# Altium footprint library ERN.PcbLib: 34 footprints (part 3 of 3)
Each footprint in its own frame and in the unit in brackets; x right, y up, seen from the top. Pads: shape width x height; smd on the part's side, far side on the other; paste and mask are expansions set on the pad; w line width, h text height; cw(c..) or ccw(c..) is an arc to the next point about the centre after c.
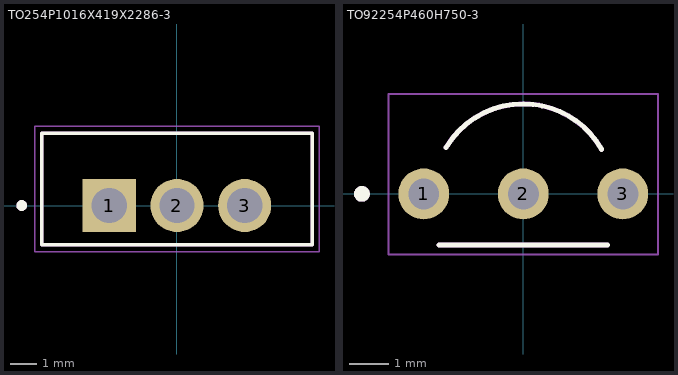
[diagram p2: the footprints below, top view; thin cyan lines are the x and y axes]

## TO254P1016X419X2286-3 [mm]
height 22.86
pads (3):
  rect 1.995x1.995 / inner round 1.995 / far side rect 1.995x1.995 hole 1.33: 1(-2.54,0)
  round 1.995 hole 1.33: 2(0,0) 3(2.54,0)
Top Overlay:
  circle w0.2: c-5.83,0 r0.1
  lines w0.127: -5.08,-1.478 5.08,-1.478 5.08,2.718 -5.08,2.718 -5.08,-1.478
Mechanical 13:
  circle w0.2: c-5.83,0 r0.1
  lines w0.127: -5.08,-1.478 5.08,-1.478 5.08,2.718 -5.08,2.718 -5.08,-1.478
Mechanical 15:
  lines w0.05: -5.33,-1.727 -5.33,2.967 5.33,2.967 5.33,-1.727 -5.33,-1.727
3D body "step_temp.STEP": height 22.86, standoff -8.38, extent -5.08,-1.473 5.08,2.718

## TO92254P460H750-3 [mm]
height 7.5
pads (3):
  round 1.298 hole 0.79 mask+0.102: 1(-2.54,0) 2(0,0) 3(2.54,0)
Top Overlay:
  circle w0.2: c-4.119,0 r0.1
  lines w0.127: -2.15,-1.3 2.15,-1.3 ; -1.97,1.187 cw(c0,0) 0,2.3 cw(c0.001,0) 2.001,1.136
Mechanical 13:
  circle w0.2: c-4.119,0 r0.1
  lines w0.127: -2.15,-1.3 2.15,-1.3 ; -1.97,1.187 cw(c0,0) 1.999,1.138
Mechanical 15:
  lines w0.05: -3.439,-1.55 -3.439,2.55 3.439,2.55 3.439,-1.55 -3.439,-1.55
3D body "step_temp.STEP": height 4.6, standoff -12.5, extent -2.74,-1.143 2.74,2.457